# EAGLE library part LPC1114 (library my_ic)
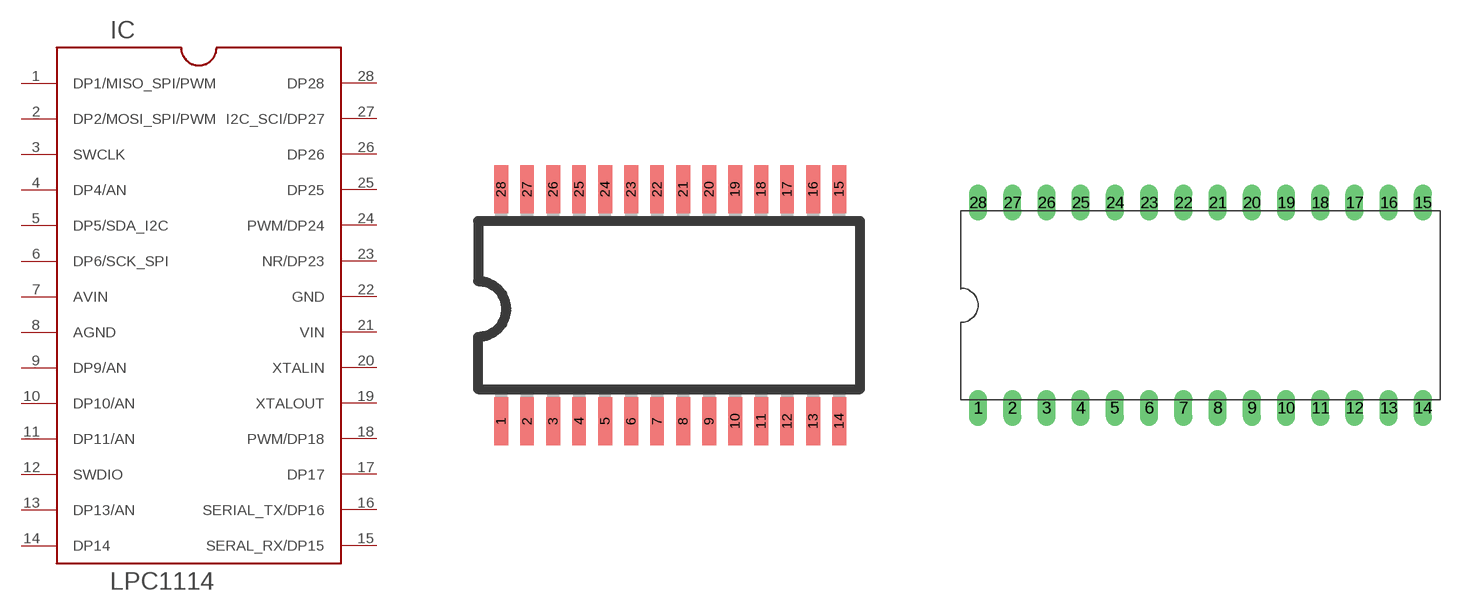
[diagram p8: symbol with the pads of TSSOP28; footprints TSSOP28, DIP28-5]

Designator prefix IC

## LPC1114FDH28  [TSSOP28]
1  DP1/MISO_SPI/PWM
2  DP2/MOSI_SPI/PWM
3  SWCLK
4  DP4/AN
5  DP5/SDA_I2C
6  DP6/SCK_SPI
7  AVIN  pwr
8  AGND  pwr
9  DP9/AN
10  DP10/AN
11  DP11/AN
12  SWDIO
13  DP13/AN
14  DP14
15  SERAL_RX/DP15
16  SERIAL_TX/DP16
17  DP17
18  PWM/DP18
19  XTALOUT  pas
20  XTALIN  pas
21  VIN  pwr
22  GND  pwr
23  NR/DP23
24  PWM/DP24
25  DP25
26  DP26
27  I2C_SCI/DP27
28  DP28

## LPC1114FN28  [DIP28-5]
Pads as for TSSOP28

## Footprint TSSOP28 (pad centres in mm)
28-Lead TSSOP Package RU-28
smd 0.35 x 1.2: 1 -4.225,-2.9; 2 -3.575,-2.9; 3 -2.925,-2.9; 4 -2.275,-2.9; 5 -1.625,-2.9; 6 -0.975,-2.9; 7 -0.325,-2.9; 8 0.325,-2.9; 9 0.975,-2.9; 10 1.625,-2.9; 11 2.275,-2.9; 12 2.925,-2.9; 13 3.575,-2.9; 14 4.225,-2.9; 15 4.225,2.9; 16 3.575,2.9; 17 2.925,2.9; 18 2.275,2.9; 19 1.625,2.9; 20 0.975,2.9; 21 0.325,2.9; 22 -0.325,2.9; 23 -0.975,2.9; 24 -1.625,2.9; 25 -2.275,2.9; 26 -2.925,2.9; 27 -3.575,2.9; 28 -4.225,2.9

## Footprint DIP28-5 (pad centres in mm)
DIP28 (2.54mm 600mil)
drill 0.813 long: 1 -16.51,-7.62; 2 -13.97,-7.62; 3 -11.43,-7.62; 4 -8.89,-7.62; 5 -6.35,-7.62; 6 -3.81,-7.62; 7 -1.27,-7.62; 8 1.27,-7.62; 9 3.81,-7.62; 10 6.35,-7.62; 11 8.89,-7.62; 12 11.43,-7.62; 13 13.97,-7.62; 14 16.51,-7.62; 15 16.51,7.62; 16 13.97,7.62; 17 11.43,7.62; 18 8.89,7.62; 19 6.35,7.62; 20 3.81,7.62; 21 1.27,7.62; 22 -1.27,7.62; 23 -3.81,7.62; 24 -6.35,7.62; 25 -8.89,7.62; 26 -11.43,7.62; 27 -13.97,7.62; 28 -16.51,7.62